# Altium footprint library KNoT_Thing.PcbLib: 36 footprints (part 2 of 3)
Each footprint in its own frame and in the unit in brackets; x right, y up, seen from the top. Pads: shape width x height; smd on the part's side, far side on the other; paste and mask are expansions set on the pad; w line width, h text height; cw(c..) or ccw(c..) is an arc to the next point about the centre after c.
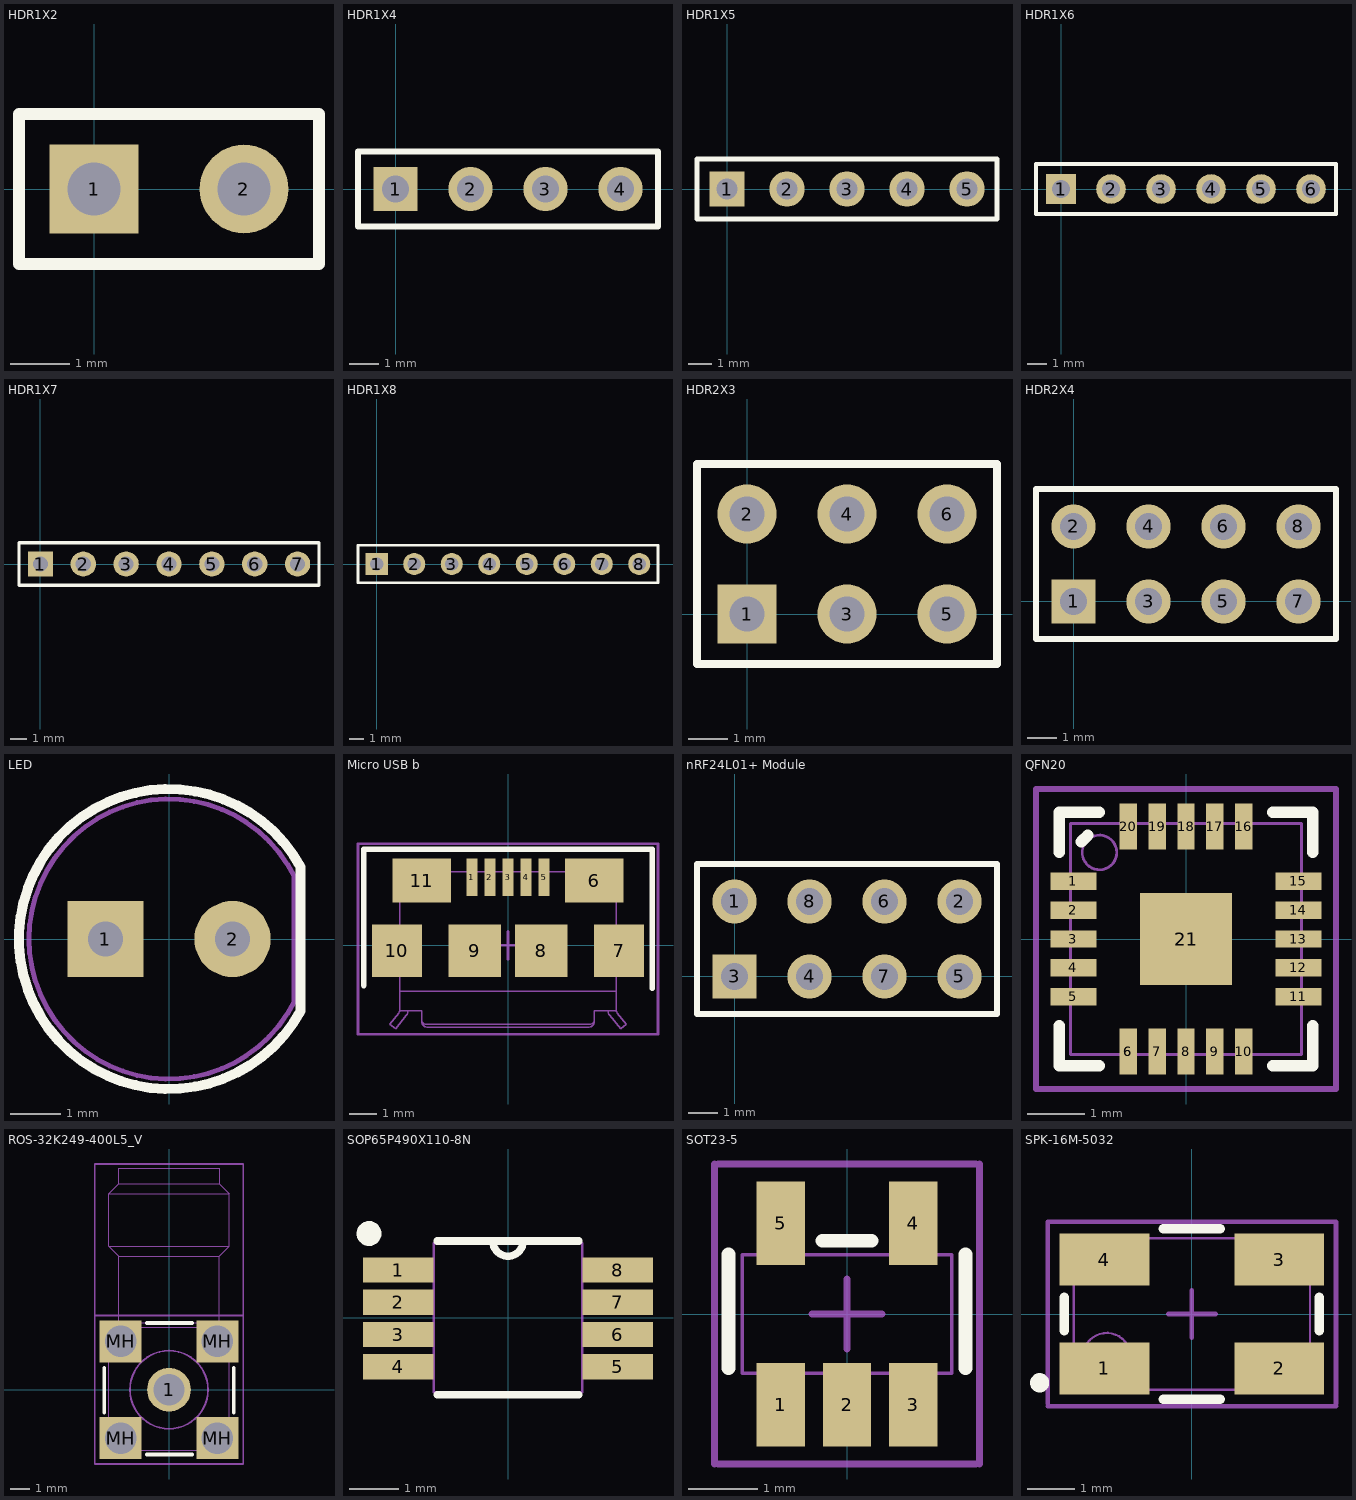
[diagram p1: the footprints below, top view; thin cyan lines are the x and y axes]

## HDR1X2 [mm] "Connector; Header; 2 Position"
pads (2):
  rect 1.5x1.5 hole 0.9: 1(0,0)
  round 1.5 hole 0.9: 2(2.54,0)
Top Overlay:
  lines w0.2: -1.27,-1.27 -1.27,1.27 3.81,1.27 3.81,-1.27 -1.27,-1.27

## HDR1X4 [mm] "Connector; Header; 4 Position"
pads (4):
  rect 1.5x1.5 hole 0.9: 1(0,0)
  round 1.5 hole 0.9: 2(2.54,0) 3(5.08,0) 4(7.62,0)
Top Overlay:
  lines w0.2: -1.27,-1.27 8.89,-1.27 8.89,1.27 -1.27,1.27 -1.27,-1.27

## HDR1X5 [mm] "Connector; Header; 5 Position"
pads (5):
  rect 1.5x1.5 hole 0.9: 1(0,0)
  round 1.5 hole 0.9: 2(2.54,0) 3(5.08,0) 4(7.62,0) 5(10.16,0)
Top Overlay:
  lines w0.2: -1.27,-1.27 -1.27,1.27 11.43,1.27 11.43,-1.27 -1.27,-1.27

## HDR1X6 [mm] "Connector; Header; 6 Position"
pads (6):
  rect 1.5x1.5 hole 0.9: 1(0,0)
  round 1.5 hole 0.9: 2(2.54,0) 3(5.08,0) 4(7.62,0) 5(10.16,0) 6(12.7,0)
Top Overlay:
  lines w0.2: -1.27,-1.27 13.97,-1.27 13.97,1.27 -1.27,1.27 -1.27,-1.27

## HDR1X7 [mm] "Connector; Header; 7 Position"
pads (7):
  rect 1.5x1.5 hole 0.9: 1(0,0)
  round 1.5 hole 0.9: 2(2.54,0) 3(5.08,0) 4(7.62,0) 5(10.16,0) 6(12.7,0) 7(15.24,0)
Top Overlay:
  lines w0.2: -1.27,-1.27 -1.27,1.27 16.51,1.27 16.51,-1.27 -1.27,-1.27

## HDR1X8 [mm] "Connector; Header; 8 Position"
pads (8):
  rect 1.5x1.5 hole 0.9: 1(0,0)
  round 1.5 hole 0.9: 2(2.54,0) 3(5.08,0) 4(7.62,0) 5(10.16,0) 6(12.7,0) 7(15.24,0) 8(17.78,0)
Top Overlay:
  lines w0.2: -1.27,-1.27 -1.27,1.27 19.05,1.27 19.05,-1.27 -1.27,-1.27

## HDR2X3 [mm] "Connector; Header; 3x2 Position"
pads (6):
  rect 1.5x1.5 hole 0.9: 1(0,0)
  round 1.5 hole 0.9: 2(0,2.54) 3(2.54,0) 4(2.54,2.54) 5(5.08,0) 6(5.08,2.54)
Top Overlay:
  lines w0.2: 1.482,-1.27 6.35,-1.27 ; 6.35,-1.27 6.35,3.81 -1.27,3.81 -1.27,-1.27 6.35,-1.27

## HDR2X4 [mm] "Connector; Header; 4x2 Position"
pads (8):
  rect 1.5x1.5 hole 0.9: 1(0,0)
  round 1.5 hole 0.9: 2(0,2.54) 3(2.54,0) 4(2.54,2.54) 5(5.08,0) 6(5.08,2.54) 7(7.62,0) 8(7.62,2.54)
Top Overlay:
  lines w0.2: -1.27,-1.27 8.89,-1.27 8.89,3.81 -1.27,3.81 -1.27,-1.27

## LED [mil]
pads (2):
  rect 60x60 hole 27.56: 1(-50,0)
  round 60 hole 27.56: 2(50,0)
Top Overlay:
  lines w7.87: 103.69,-56.56 cw(c0,0) 103.69,56.56 103.69,-56.56
Mechanical 11:
  lines w3.94: 98.6,-49.3 cw(c0,0) 98.6,49.3 98.6,-49.3
3D body: height 352.16, standoff -255.91, extent -118.11,-118.11 98.43,118.11

## Micro USB b [mm]
pads (11):
  rect 0.4x1.35 smd: 1(-1.3,2.449) 2(-0.65,2.449) 3(0,2.449) 4(0.65,2.449) 5(1.3,2.449)
  rect 2.1x1.6 smd: 6(3.1,2.33) 11(-3.1,2.33)
  rect 1.8x1.9 smd: 7(4,-0.201) 10(-4,-0.201)
  rect 1.9x1.9 smd: 8(1.2,-0.2) 9(-1.2,-0.201)
Top Overlay:
  lines w0.2: -5.2,-1.45 -5.2,3.45 5.2,3.45 5.2,-1.55
Top Solder:
  region: -1.3,1.695 -1.3,3.2 1.3,3.2 1.3,1.703
Mechanical 11:
  lines w0.05: -3.9,-1.65 3.9,-1.651 ; -3.657,-2.521 -4.05,-3.001 -4.25,-2.851 -3.931,-2.441 ccw(c-4.046,-2.351) -3.9,-2.351 ; -3.657,-2.52 ccw(c-3.854,-2.36) -3.6,-2.36 -3.6,-2.351 ; -3.1,-2.752 ccw(c-2.925,-2.651) -2.9,-2.851 ; -2.9,-2.851 2.9,-2.851 ccw(c2.9,-2.601) 3.1,-2.751 ; 3.6,-2.351 3.6,-2.36 ccw(c3.854,-2.36) 3.657,-2.52 ; 3.657,-2.521 4.05,-3.001 4.25,-2.851 3.931,-2.441 cw(c4.046,-2.351) 3.9,-2.351 ; -3.9,-2.351 -3.9,2.649 3.9,2.649 3.9,-2.351 ; -3.9,-2.351 -3.6,-2.351 ; -3.6,-2.351 -3.1,-2.351 -3.1,-2.751 ccw(c-2.9,-2.751) -2.9,-2.951 2.9,-2.951 ccw(c2.9,-2.751) 3.1,-2.751 ; 3.1,-2.751 3.1,-2.351 3.9,-2.351
Mechanical 15:
  lines w0.1: -5.4,3.6 -5.4,-3.2 5.4,-3.2 ; -5.4,3.65 5.4,3.65 5.4,-3.15 ; -0.5,0 0.5,0 ; 0,-0.5 0,0.5
3D body: height 2.78, standoff -0.17, extent -4.037,-2.7 4.037,2.9

## nRF24L01+ Module [mm] "nRF24L01+ Module"
pads (8):
  round 1.5 hole 0.9: 1(0,2.54) 2(7.62,2.54) 4(2.54,0) 5(7.62,0) 6(5.08,2.54) 7(5.08,0) 8(2.54,2.54)
  rect 1.5x1.5 hole 0.9: 3(0,0)
Top Overlay:
  lines w0.2: -1.27,-1.27 -1.27,3.81 8.89,3.81 8.89,-1.27 -1.27,-1.27

## QFN20 [mm]
pads (22):
  rect 0.8x0.3 smd: 1(-1.95,1) 2(-1.95,0.5) 3(-1.95,0) 4(-1.95,-0.5) 5(-1.95,-1) 11(1.95,-1) 12(1.95,-0.5) 13(1.95,0) 14(1.95,0.5) 15(1.95,1)
  rect 0.3x0.8 smd: 6(-1,-1.95) 6(-1,-1.95) 7(-0.5,-1.95) 8(0,-1.95) 9(0.5,-1.95) 10(1,-1.95) 16(1,1.95) 17(0.5,1.95) 18(0,1.95) 19(-0.5,1.95) 20(-1,1.95)
  rect 1.6x1.6 smd: 21(0,0)
Top Overlay:
  lines w0.2: -2.2,-1.5 -2.2,-2.2 -1.5,-2.2 ; -2.2,1.5 -2.2,2.2 -1.5,2.2 ; -1.814,1.686 -1.7,1.8 ; 1.5,-2.2 2.2,-2.2 2.2,-1.5 ; 1.5,2.2 2.2,2.2 2.2,1.5
Mechanical 11:
  circle w0.05: c-1.5,1.5 r0.3
  lines w0.05: -2,-2 2,-2 2,2 -2,2 -2,-2
Mechanical 15:
  lines w0.1: -0.5,0 0.5,0 ; 0,-0.5 0,0.5 ; -2.6,-2.6 2.6,-2.6 2.6,2.6 -2.6,2.6 -2.6,-2.6
3D body: height 0.78, standoff -0.02, extent -2.01,-2.01 2.01,2.01

## ROS-32K249-400L5_V [mm] "SMA Right Angle Jack, 14.8x6.35x9.7mm, Rosenberger Recommended"
height 9.7
pads (5):
  round 2.3 hole 1.65: 1(0,0)
  rect 2.2x2.2 hole 1.65: MH(-2.54,-2.54) MH(-2.54,2.54) MH(2.54,-2.54) MH(2.54,2.54)
Top Overlay:
  lines w0.2: -3.4,-1.212 -3.4,1.15 ; -1.162,-3.4 1.2,-3.4 ; -1.162,3.5 1.2,3.5 ; 3.4,-1.212 3.4,1.15
Mechanical 11:
  circle w0.1: c0,0 r0.635
  circle w0.1: c0,0 r2.05
  lines w0.05: -3.175,-1.708 -2.161,-1.708 -2.02,-1.874 -1.866,-2.028 -1.7,-2.17 -1.7,-3.183 ; -3.175,1.708 -2.161,1.708 -2.02,1.874 -1.866,2.028 -1.7,2.17 -1.7,3.183 -2.9,3.183 -3.175,2.908 -3.175,-2.908 -2.9,-3.183 ; -2.9,-3.183 2.9,-3.183 ; 1.7,-3.183 1.7,-2.17 1.866,-2.028 2.02,-1.874 2.161,-1.708 3.175,-1.708 ; 2.9,-3.183 3.175,-2.908 3.175,2.908 2.9,3.183 1.7,3.183 1.7,2.17 1.866,2.028 2.02,1.874 2.161,1.708 3.175,1.708 ; -3.175,7.542 -2.65,7.017 ; -3.175,7.542 3.175,7.542 ; -3.175,7.542 -3.175,10.292 ; -3.175,10.292 -2.65,10.817 ; -3.175,10.292 3.175,10.292 ; -2.65,3.517 -2.9,3.267 2.9,3.267 2.65,3.517 ; -2.65,3.517 2.65,3.517 ; -2.65,3.517 -2.65,7.017 ; -2.65,7.017 2.65,7.017 ; -2.65,10.817 -2.65,11.617 2.65,11.617 2.65,10.817 ; -2.65,10.817 2.65,10.817 ; 2.65,3.517 2.65,7.017 ; 2.65,7.017 3.175,7.542 ; 2.65,10.817 3.175,10.292 ; 3.175,7.542 3.175,10.292 ; -3.04,-3.048 -3.04,-2.048 -2.04,-2.048 -2.04,-3.048 -3.04,-3.048 ; -3.04,2.032 -2.04,2.032 -2.04,3.032 -3.04,3.032 -3.04,2.032 ; 2.04,-3.048 3.04,-3.048 3.04,-2.048 2.04,-2.048 2.04,-3.048 ; 2.04,2.032 2.04,3.032 3.04,3.032 3.04,2.032 2.04,2.032
Mechanical 15:
  lines w0.1: -3.9,3.9 3.9,3.9 ; -3.9,-3.9 -3.9,11.85 3.9,11.85 3.9,-3.9 -3.9,-3.9 ; -0.5,0 0.5,0 -0.5,0 ; 0,-0.5 0,0.5 0,-0.5
3D body: height 88.23, standoff 1.33, extent -4.68,5.828 4.65,38.972
3D body: height 9.7, standoff -4, extent -3.175,-3.183 3.175,11.617

## SOP65P490X110-8N [mil]
pads (8):
  rect 56x20 smd paste-1000 mask-1000: 1(-87,38) 2(-87,12.41) 3(-87,-13.18) 4(-87,-38.77) 5(87,-38.77) 6(87,-13.18) 7(87,12.41) 8(87,38)
Top Overlay:
  circle w9.84: c-110.24,66.93 r4.92
  lines w6: -56,-61 56,-61 ; -56,61 -12,61 ; 56,61 12,61 ; -12,61 ccw(c0,61) 12,61 ; -12,61 12,61
Top Paste:
  region: 59,28 115,28 115,48 59,48
  region: 59,2.41 115,2.41 115,22.41 59,22.41
  region: 59,-23.18 115,-23.18 115,-3.18 59,-3.18
  region: 59,-48.77 115,-48.77 115,-28.77 59,-28.77
  region: -115,28 -59,28 -59,48 -115,48
  region: -115,2.41 -59,2.41 -59,22.41 -115,22.41
  region: -115,-23.18 -59,-23.18 -59,-3.18 -115,-3.18
  region: -115,-48.77 -59,-48.77 -59,-28.77 -115,-28.77
Top Solder:
  region: 55.06,24.06 118.94,24.06 118.94,51.94 55.06,51.94
  region: 55.06,-1.53 118.94,-1.53 118.94,26.35 55.06,26.35
  region: 55.06,-27.12 118.94,-27.12 118.94,0.76 55.06,0.76
  region: 55.06,-52.71 118.94,-52.71 118.94,-24.83 55.06,-24.83
  region: -118.94,24.06 -55.06,24.06 -55.06,51.94 -118.94,51.94
  region: -118.94,-1.53 -55.06,-1.53 -55.06,26.35 -118.94,26.35
  region: -118.94,-27.12 -55.06,-27.12 -55.06,0.76 -118.94,0.76
  region: -118.94,-52.71 -55.06,-52.71 -55.06,-24.83 -118.94,-24.83
Mechanical 11:
  lines w1.97: -59.06,-59.06 59.06,-59.06 59.06,59.06 -59.06,59.06 -59.06,-59.06
3D body: height 43.31, standoff 0, extent -98.42,-61.03 98.43,61.02

## SOT23-5 [mm]
pads (5):
  rect 0.69x1.2 smd: 1(-0.95,-1.3) 2(0,-1.3) 3(0.95,-1.3) 4(0.95,1.3) 5(-0.95,1.3)
Top Overlay:
  lines w0.2: -1.7,-0.771 -1.7,0.85 ; -0.35,1.05 0.35,1.05 ; 1.7,-0.771 1.7,0.85
Top Solder:
  region: -0.95,-1.993 -0.95,-0.6 0.95,-0.6 0.95,-1.987
Mechanical 11:
  lines w0.05: -1.5,-0.85 -1.5,0.85 1.5,0.85 1.5,-0.85 -1.5,-0.85
Mechanical 15:
  lines w0.1: -1.9,-2.15 -1.9,2.15 ; -1.85,-2.15 1.85,-2.15 ; -1.85,2.15 1.85,2.15 ; -0.5,0 0.5,0 ; 0,-0.5 0,0.5 ; 1.9,-2.15 1.9,2.15
3D body: height 1.05, standoff -0.05, extent -1.5,-1.25 1.5,1.25

## SPK-16M-5032 [mm] "Crystal Oscilator"
pads (4):
  rect 1.9x1.1 smd: 1(-1.85,-1.15) 2(1.85,-1.15) 3(1.85,1.15) 4(-1.85,1.15)
Top Overlay:
  circle w0.254: c-3.219,-1.455 r0.076
  lines w0.2: -2.7,-0.35 -2.7,0.35 ; -0.6,-1.8 0.6,-1.8 ; -0.6,1.8 0.6,1.8 ; 2.7,-0.35 2.7,0.35
Mechanical 11:
  circle w0.05: c-1.8,-0.9 r0.5
  lines w0.05: -2.5,-1.6 -2.5,1.6 2.5,1.6 2.5,-1.6 -2.5,-1.6
Mechanical 15:
  lines w0.1: -3.05,-1.95 3.05,-1.95 ; -3.05,-1.9 -3.05,1.95 3.05,1.95 3.05,-1.9 ; -0.5,0 0.5,0 ; 0,-0.5 0,0.5
3D body: height 0.9, standoff -0.05, extent -2.5,-1.6 2.5,1.6